# Altium integrated library Analog Devices Data Converters Analog-to-Digital Converters.IntLib: 2400 symbols (part 226 of 338)
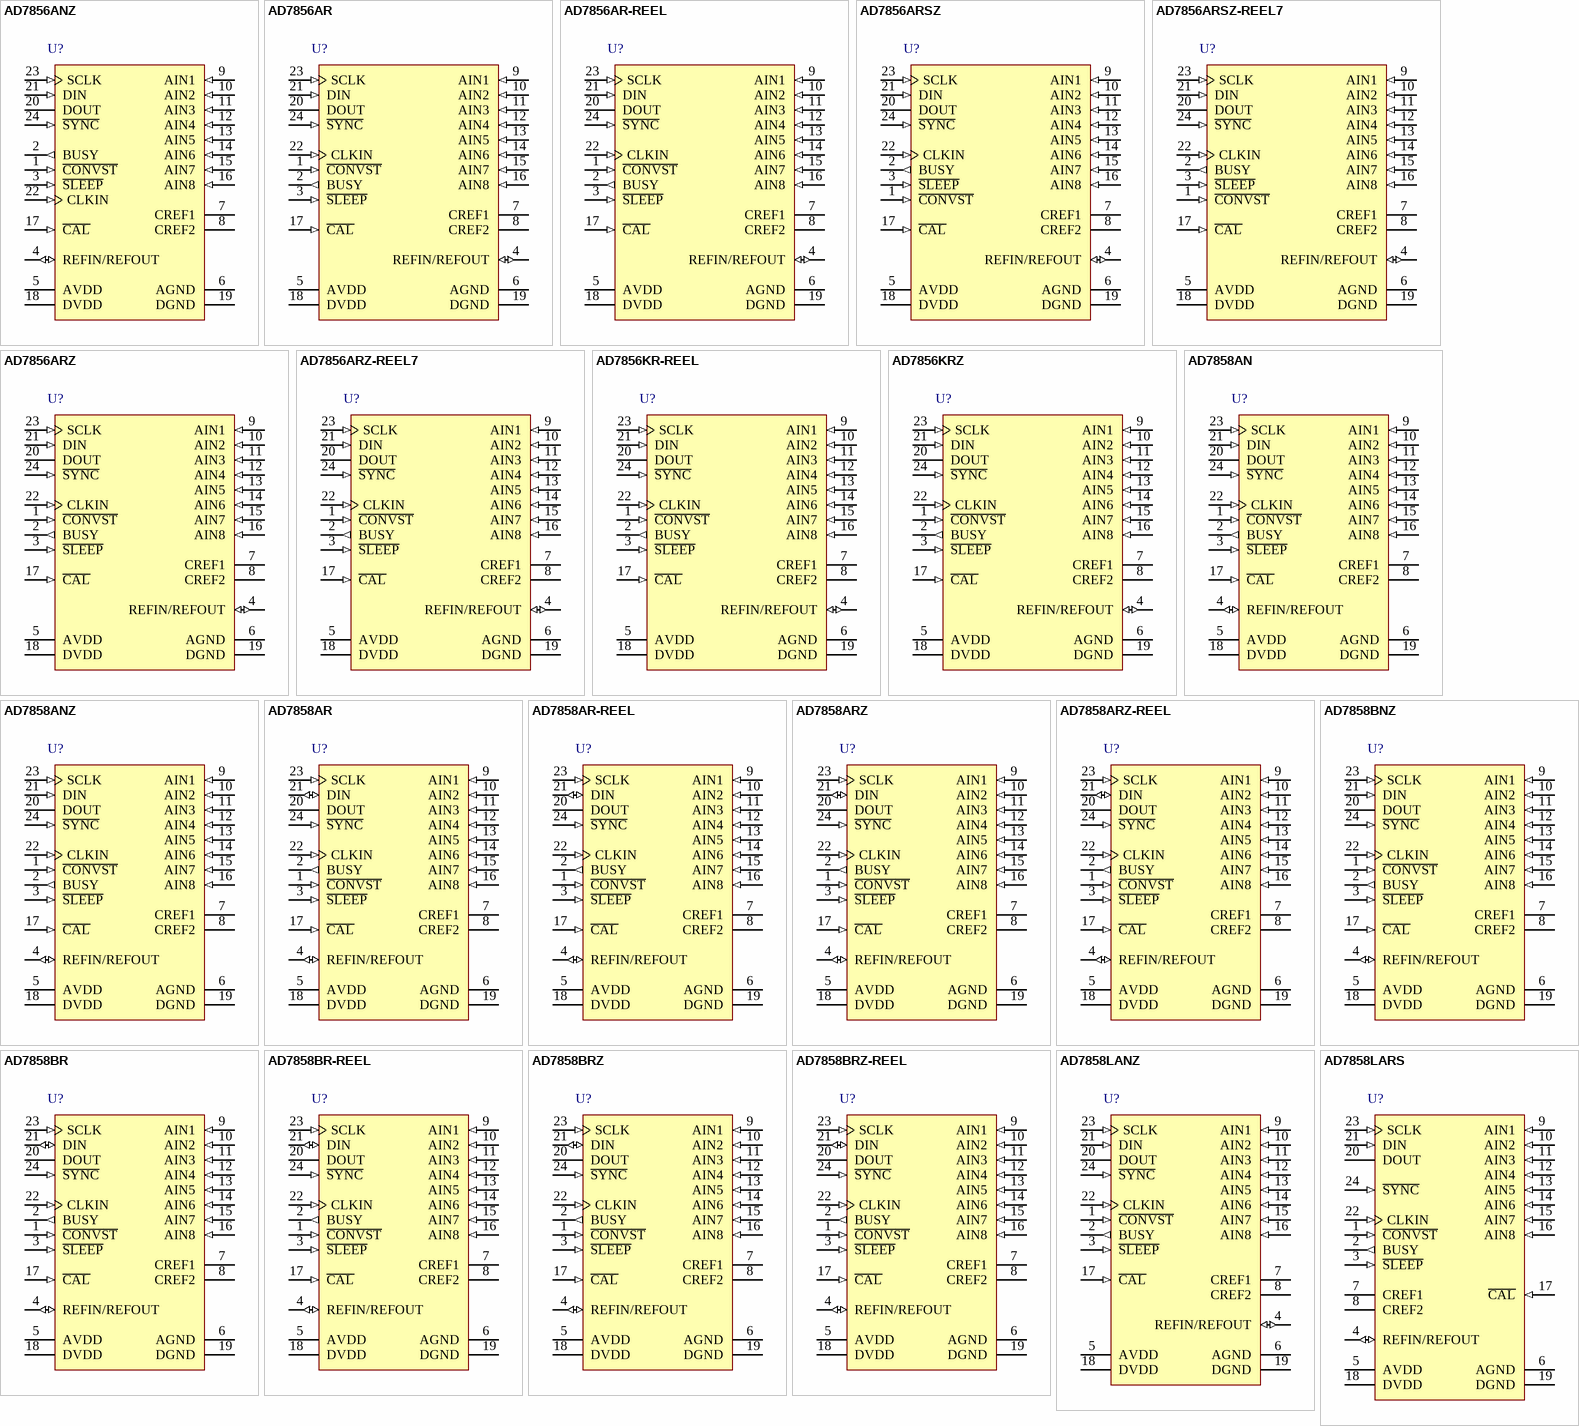
[diagram p378: symbols AD7856ANZ to AD7858LARS]

## AD7858AR-REEL
designator U?
Octal 12-Bit Sampling Analog-to-Digital Converter with Serial, SPI Interface, Single Supply, 3 to 5.5 V 200KSPS, 0 to +70 degC, RW-24, Reel; Part Number: AD7858-200; Manufacturer: Analog Devices; Resolution (Bits): 12; Channels: 8; Throughput Rate (SPS): 200K; Interface: Ser, SPI; DatasheetVersion: Rev.B; PackageVersion: 060706-A; PackageReference: RW-24; PackageDescription: 24-Lead Standard Small Outline Package [SOIC_W]; RoHS: N; Packing: Reel; Mounting Technology: Surface Mount; Code_JEDEC: MS-013-AD; ComponentLink1Description: Manufacturer URL; ComponentLink1URL: http://www.analog.com/en/index.html; ComponentLink2Description: Datasheet; ComponentLink2URL: http://www.analog.com/static/imported-files/data_sheets/AD7858_7858L.pdf; ComponentLink3Description: Package Specification; ComponentLink3URL: http://www.analog.com/static/imported-files/packages/33665150946139RW_24.pdf; ComponentLink4Description: Product URL; ComponentLink4URL: http://www.analog.com/en/analog-to-digital-converters/ad-converters/ad7858/products/product.html
footprint RW-24_N (SOIC, 24-Leads, Body 15.4x7.5mm, Pitch 1.27mm, IPC Medium Density)
footprint RW-24_L (SOIC, 24-Leads, Body 15.4x7.5mm, Pitch 1.27mm, IPC High Density)
footprint RW-24_M (SOIC, 24-Leads, Body 15.4x7.5mm, Pitch 1.27mm, IPC Low Density)
pins: 1 ~{CONVST} (in) "Convert Start. Logic Input. A low to high transition on this input puts the track/hold into its hold mode and starts conversion. When this input is not used, it should be tied to DVDD.", 2 BUSY (out) "Busy Output. The busy output is triggered high by the falling edge of C\O\N\V\ST\ or rising edge of C\A\L\,and remains high until conversion is completed. BUSY is also used to indicate when the AD7858/AD7858L has completed (See Datasheet)", 3 ~{SLEEP} (in) "Sleep Input/Low-Power Mode. A Logic 0 initiates a sleep, and all circuitry is powered down including the internal voltage reference provided there is no conversion or calibration being performed. Calibration data is retained.(See Datasheet)", 4 REFIN/REFOUT (io) "Reference Input/Output. This pin is connected to the internal reference through a series resistor and is the reference source for the analog-to-digital converter. The nominal reference voltage is 2.5 V and this appears at (See Datasheet)", 5 AVDD (power) "Analog Positive Supply Voltage, +3.0 V to +5.5 V.", 6 AGND (power) "Analog Ground. Ground reference for track/hold, reference, and DAC.", 7 CREF1 "Reference Capacitor (0.1 µF Multilayer Ceramic). This external capacitor is used as a charge source for the internal DAC. The capacitor should be tied between the pin and AGND.", 8 CREF2 "Reference Capacitor (0.01 µF Ceramic Disc). This external capacitor is used in conjunction with the onchip reference. The capacitor should be tied between the pin and AGND.", 9 AIN1 (in) "Analog Inputs. Eight analog inputs that can be used as eight single-ended inputs (referenced to AGND)or four pseudo-differential inputs. Channel configuration is selected by writing to the control register Both the positive (See Datasheet)", 10 AIN2 (in) "Analog Inputs. Eight analog inputs that can be used as eight single-ended inputs (referenced to AGND)or four pseudo-differential inputs. Channel configuration is selected by writing to the control register Both the positive (See Datasheet)", 11 AIN3 (in) "Analog Inputs. Eight analog inputs that can be used as eight single-ended inputs (referenced to AGND)or four pseudo-differential inputs. Channel configuration is selected by writing to the control register Both the positive (See Datasheet)", 12 AIN4 (in) "Analog Inputs. Eight analog inputs that can be used as eight single-ended inputs (referenced to AGND)or four pseudo-differential inputs. Channel configuration is selected by writing to the control register Both the positive (See Datasheet)", 13 AIN5 (in) "Analog Inputs. Eight analog inputs that can be used as eight single-ended inputs (referenced to AGND)or four pseudo-differential inputs. Channel configuration is selected by writing to the control register Both the positive (See Datasheet)", 14 AIN6 (in) "Analog Inputs. Eight analog inputs that can be used as eight single-ended inputs (referenced to AGND)or four pseudo-differential inputs. Channel configuration is selected by writing to the control register Both the positive (See Datasheet)", 15 AIN7 (in) "Analog Inputs. Eight analog inputs that can be used as eight single-ended inputs (referenced to AGND)or four pseudo-differential inputs. Channel configuration is selected by writing to the control register Both the positive (See Datasheet)", 16 AIN8 (in) "Analog Inputs. Eight analog inputs that can be used as eight single-ended inputs (referenced to AGND)or four pseudo-differential inputs. Channel configuration is selected by writing to the control register Both the positive (See Datasheet)", 17 ~{CAL} (in) "Calibration Input. This pin has an internal pull-up current source of 0.15 µA. A Logic 0 on this pin resets all calibration control logic and initiates a calibration on its rising edge. There is the option of connecting a 10 (See Datasheet)", 18 DVDD (power) "Digital Supply Voltage, +3.0 V to +5.5 V", 19 DGND (power) "Digital Ground. Ground reference point for digital circuitry", 20 DOUT (hiz) "Serial Data Output. The data output is supplied to this pin as a 16-bit serial word.", 21 DIN (io) "Serial Data Input. The data to be written is applied to this pin in serial form (16-bit word). This pin can act as an input pin or as a I/O pin depending on the serial interface mode the part is in (see Table X).", 22 CLKIN (in) "Master clock signal for the device (4 MHz AD7858, 1.8 MHz AD7858L). Sets the conversion and calibration times.", 23 SCLK (in) "Serial Port Clock. Logic Input. The user must provide a serial clock on this input.", 24 ~{SYNC} (in) "Frame Sync. Logic Input. This pin is level triggered active low and frames the serial clock for the read and write operations (see Table IX)."